# Altium footprint library CAP-0402-0.5MM.PcbLib: 1 footprints
Each footprint in its own frame and in the unit in brackets; x right, y up, seen from the top. Pads: shape width x height; smd on the part's side, far side on the other; paste and mask are expansions set on the pad; w line width, h text height; cw(c..) or ccw(c..) is an arc to the next point about the centre after c.
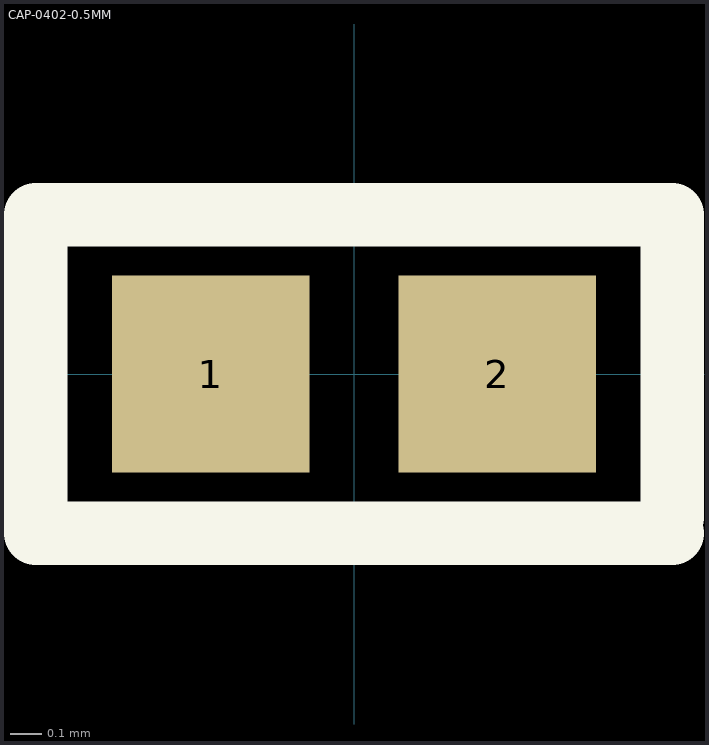
[diagram p0: the footprint, top view; thin cyan lines are the x and y axes]

## CAP-0402-0.5MM [mm] "Standard 0402 capacitor, Height 0.5mm"
height 0.5
pads (2):
  rect 0.62x0.62 smd: 1(-0.45,0) 2(0.45,0)
Top Overlay:
  lines w0.2: 1,-0.5 -1,-0.5 -1,0.5 1,0.5 1,-0.45
Top Assembly:
  lines w0.1: -1,-0.5 -1,0.5 1,0.5 1,-0.5 -1,-0.5
Top Courtyard:
  lines w0.05: -1,-0.5 1,-0.5 1,0.5 -1,0.5 -1,-0.5
Top Designator:
  text ".Designator" at -1.999,-0.133 h0.4
3D body "Ceramic_Capacitor_0402_h20mil.STEP": height 0.52, standoff 0.01, extent -0.508,-0.254 0.508,0.254